# Altium footprint library Gate Driver Board.PcbLib: 20 footprints (part 1 of 2)
Each footprint in its own frame and in the unit in brackets; x right, y up, seen from the top. Pads: shape width x height; smd on the part's side, far side on the other; paste and mask are expansions set on the pad; w line width, h text height; cw(c..) or ccw(c..) is an arc to the next point about the centre after c.
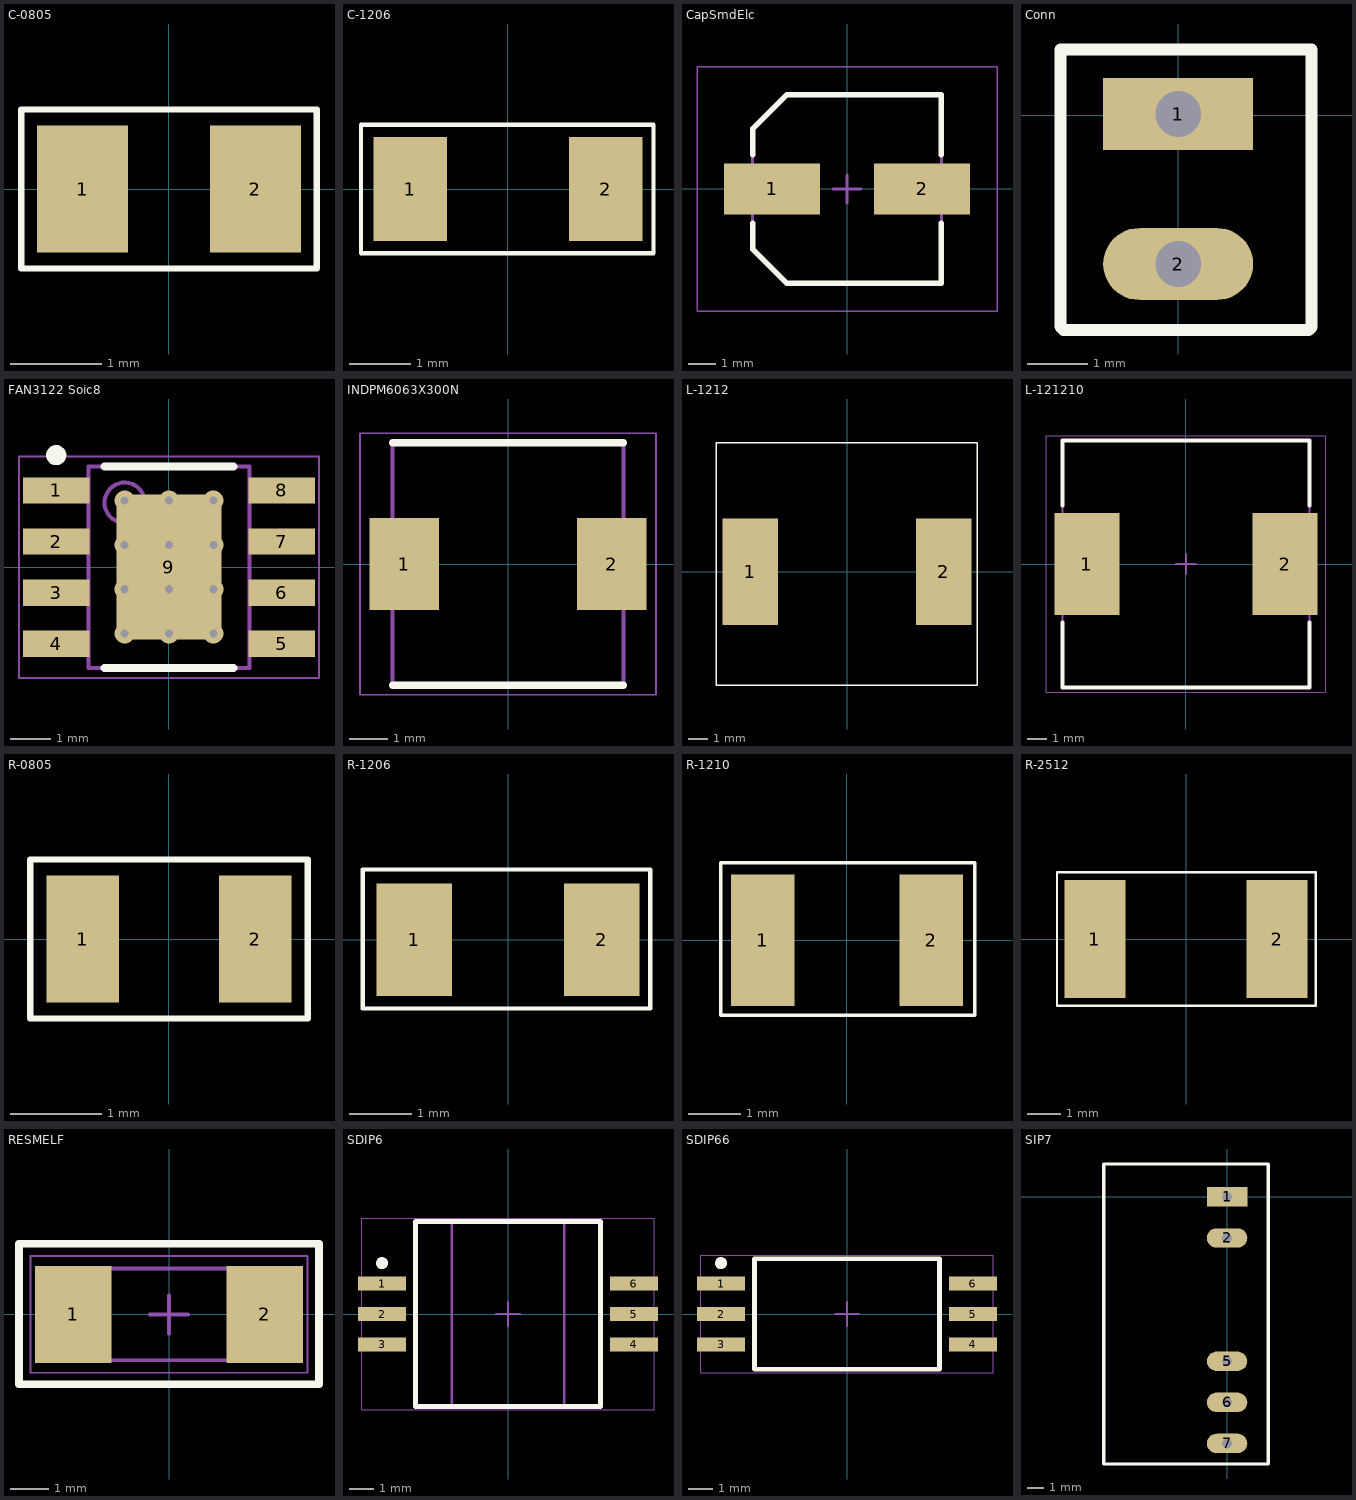
[diagram p0: the footprints below, top view; thin cyan lines are the x and y axes]

## C-0805 [mm]
pads (2):
  rect 1x1.4 smd: 1(-0.95,0) 2(0.95,0)
Top Overlay:
  lines w0.07: -1.625,-0.875 -0.391,-0.875 0.416,-0.875 1.625,-0.875 1.625,0.875 -1.625,0.875 -1.625,0.413 -1.625,-0.875
3D body "User Library-CAPC2013X10.STEP": height 1.01, standoff 0.01, extent -1,-0.625 1,0.625

## C-1206 [mm]
pads (2):
  rect 1.2x1.7 smd: 1(-1.6,0) 2(1.6,0)
Top Overlay:
  lines w0.07: -2.4,-1.05 2.375,-1.05 2.375,-0.531 2.375,0.556 2.375,0.692 2.375,1.05 -2.4,1.05 -2.4,-1.05
3D body "User Library-CAPC3216X10.STEP": height 1, standoff 0, extent -1.6,-0.8 1.6,0.8

## CapSmdElc [mm] "Aluminum Electrolytic Capacitor, Body 6.70x6.70x6.30mm, IPC Low Density"
height 6.3
pads (2):
  rect 3.45x1.85 smd: 1(-2.7,0) 2(2.7,0)
Top Overlay:
  lines w0.2: -3.4,-1.225 -3.4,-2.163 -2.163,-3.4 3.4,-3.4 3.4,-1.225 ; -3.4,1.225 -3.4,2.163 -2.163,3.4 3.4,3.4 3.4,1.225
Assembly Top:
  lines w0.1: -3.4,-2.163 -2.163,-3.4 3.4,-3.4 3.4,3.4 -2.163,3.4 -3.4,2.163 -3.4,-2.163
Courtyard Top:
  lines w0.05: -5.4,-4.4 -5.4,4.4 5.4,4.4 5.4,-4.4 -5.4,-4.4
  lines w0.1: -0.5,0 0.5,0 ; 0,-0.5 0,0.5
3D body "User Library-Nichicon_CW6_3x7.STEP": height 6.92, standoff 0.01, extent -3.45,-3.275 3.55,3.325

## Conn [mm]
pads (2):
  rect 2.5x1.2 hole 0.762 square: 1(0,0.025)
  oval 2.5x1.2 hole 0.762 square: 2(0,-2.475)
Top Overlay:
  lines w0.2: -1.965,-3.52 -1.91,-3.575 2.175,-3.575 2.225,-3.525 2.225,1.1 -1.965,1.1 -1.965,-3.52
3D body: height 1.4, standoff -1.4, extent -5,-0.775 -5,-0.775
3D body "User Library-Header1x2.STEP": height 8.15, standoff -2.83, extent -1.24,-3.74 1.3,1.34

## FAN3122 Soic8 [mm] "SOIC, 8-Leads, Body 4.95x3.95mm, Pitch 1.27mm, Thermal Pad 4.10x3.10mm, IPC Medium Density"
height 1.75
pads (9):
  rect 1.65x0.65 smd: 1(-2.8,1.905) 2(-2.8,0.635) 3(-2.8,-0.635) 4(-2.8,-1.905) 5(2.8,-1.905) 6(2.8,-0.635) 7(2.8,0.635) 8(2.8,1.905)
  rect 2.6x3.6 smd: 9(0,0)
via -1.1,1.65 diameter 0.5 hole 0.2
via 0,1.65 diameter 0.5 hole 0.2
via 1.1,1.65 diameter 0.5 hole 0.2
via -1.1,0.55 diameter 0.5 hole 0.2
via 0,0.55 diameter 0.5 hole 0.2
via 1.1,0.55 diameter 0.5 hole 0.2
via -1.1,-0.55 diameter 0.5 hole 0.2
via 0,-0.55 diameter 0.5 hole 0.2
via 1.1,-0.55 diameter 0.5 hole 0.2
via -1.1,-1.65 diameter 0.5 hole 0.2
via 0,-1.65 diameter 0.5 hole 0.2
via 1.1,-1.65 diameter 0.5 hole 0.2
Top Overlay:
  circle w0.25: c-2.8,2.78 r0.125
  lines w0.2: -1.6,-2.5 1.6,-2.5 ; -1.6,2.5 1.6,2.5
Assembly Top:
  circle w0.1: c-1.1,1.6 r0.5
  lines w0.1: -2,-2.5 -2,2.5 2,2.5 2,-2.5 -2,-2.5
Courtyard Top:
  lines w0.05: -3.725,-2.75 -3.725,2.75 3.725,2.75 3.725,-2.75 -3.725,-2.75
  lines w0.1: -0.5,0 0.5,0 ; 0,-0.5 0,0.5
3D body "User Library-SOIC8_JEDEC_MS-012AA.STEP": height 1.66, standoff -0.09, extent -3.124,-2.55 3.075,2.45

## INDPM6063X300N [mm]
pads (2):
  rect 1.8x2.4 smd: 1(-2.7,0) 2(2.7,0)
Top Overlay:
  lines w0.2: -3,-3.15 3,-3.15 ; -3,3.15 3,3.15
Mechanical 13:
  lines w0.1: -3,-3.15 3,-3.15 3,3.15 -3,3.15 -3,-3.15
Mechanical 15:
  lines w0.05: -3.85,-3.4 3.85,-3.4 3.85,3.4 -3.85,3.4 -3.85,-3.4
3D body "B82462G4333M000.stp": height 3, standoff 0, extent -3,-3.15 3,3.15

## L-1212 [mm]
pads (2):
  rect 2.8x5.4 smd: 1(-4.9,0) 2(4.9,0)
Top Overlay:
  lines w0.07: -6.625,-5.75 -6.625,6.525 6.6,6.525 6.6,-5.75 -6.625,-5.75

## L-121210 [mm] "Precision Wire Wound Inductor, 2-Leads, Body 12.25x12.25mm, IPC Medium Density"
height 10
pads (2):
  rect 3.3x5.15 smd: 1(-5.025,0) 2(5.025,0)
Top Overlay:
  lines w0.2: -6.25,-2.975 -6.25,-6.25 6.25,-6.25 6.25,-2.975 ; -6.25,2.975 -6.25,6.25 6.25,6.25 6.25,2.975
Assembly Top:
  lines w0.1: -6.25,-6.25 6.25,-6.25 6.25,6.25 -6.25,6.25 -6.25,-6.25
Courtyard Top:
  lines w0.05: -7.075,-6.5 7.075,-6.5 7.075,6.5 -7.075,6.5 -7.075,-6.5
  lines w0.1: -0.5,0 0.5,0 ; 0,-0.5 0,0.5
3D body: height 10, standoff 0, extent -6.25,-6.25 6.25,6.25

## R-0805 [mm]
pads (2):
  rect 0.8x1.4 smd: 1(-0.95,0) 2(0.95,0)
Top Overlay:
  lines w0.07: -1.525,-0.875 1.525,-0.875 1.525,0.875 -1.525,0.875 -1.525,-0.875
3D body "User Library-CR2012-0805.STEP": height 0.56, standoff -0.04, extent -1,-0.625 1,0.625

## R-1206 [mm]
pads (2):
  rect 1.2x1.8 smd: 1(-1.5,0) 2(1.5,0)
Top Overlay:
  lines w0.07: -0.275,-1.1 2.275,-1.1 ; -0.275,-1.1 -2.325,-1.1 -2.325,0.625 -2.325,1.125 -1.175,1.125 1.125,1.125 2.275,1.125 2.275,-1.1 ; -0.275,-1.1 2.275,-1.1
3D body "User Library-CR3216-1206.step": height 0.56, standoff -0.04, extent -1.6,-0.775 1.6,0.825

## R-1210 [mm]
pads (2):
  rect 1.2x2.5 smd: 1(-1.6,0) 2(1.6,0)
Top Overlay:
  lines w0.07: -2.4,-1.425 -2.4,0.9 -2.4,1.475 2.425,1.475 2.425,-1.425 -0.038,-1.425 -1.512,-1.425 -2.4,-1.425

## R-2512 [mm]
pads (2):
  rect 1.8x3.5 smd: 1(-2.7,0) 2(2.7,0)
Top Overlay:
  lines w0.07: -3.825,-1.975 -3.825,0.525 -3.825,1.975 3.85,1.975 3.85,-1.975 -3.825,-1.975
3D body "User Library-R SMD 2512.STEP": height 0.59, standoff -0.01, extent -3.206,-1.575 3.094,1.575

## RESMELF [mm] "MELF Resistor, 2-Leads, Body 5.85x2.30mm, IPC Medium Density"
height 2.4
pads (2):
  rect 2x2.55 smd: 1(-2.5,0) 2(2.5,0)
Top Overlay:
  lines w0.2: -3.925,-1.825 -3.925,1.85 -1.572,1.85 -0.191,1.85 2.082,1.85 ; -3.9,-1.825 -1.2,-1.825 3.925,-1.825 3.925,1.85 ; 2.082,1.85 3.925,1.85 ; 2.082,1.85 3.925,1.85
Assembly Top:
  lines w0.1: -2.95,-1.2 -2.95,1.2 2.95,1.2 2.95,-1.2 -2.95,-1.2
Courtyard Top:
  lines w0.05: -3.625,-1.525 -3.625,1.525 3.625,1.525 3.625,-1.525 -3.625,-1.525
  lines w0.1: -0.5,0 0.5,0 ; 0,-0.5 0,0.5
3D body: height 2.39, standoff 0, extent -2.95,-1.2 -2.4,1.195
3D body: height 2.39, standoff 0, extent 2.4,-1.2 2.95,1.195
3D body "User Library-MMB0207_102K.STEP": height 2.4, standoff 0, extent -2.9,-1.2 2.9,1.2

## SDIP6 [mm]
height 2.65
pads (6):
  rect 2x0.6 smd: 1(-5.25,1.27) 2(-5.25,0) 3(-5.25,-1.27) 4(5.25,-1.27) 5(5.25,0) 6(5.25,1.27)
Top Overlay:
  circle w0.25: c-5.25,2.12 r0.125
  lines w0.2: -3.85,-3.85 -3.85,3.85 3.85,3.85 3.85,-3.85 -3.85,-3.85
Assembly Top:
  lines w0.1: -2.35,-3.85 2.35,-3.85 2.35,3.85 -2.35,3.85 -2.35,-3.85
Courtyard Top:
  lines w0.05: -6.1,-4 6.1,-4 6.1,4 -6.1,4 -6.1,-4
  lines w0.1: -0.5,0 0.5,0 ; 0,-0.5 0,0.5
3D body: height 2.65, standoff 0, extent -2.35,-3.85 2.35,3.85

## SDIP66 [mm]
height 2.65
pads (6):
  rect 2x0.6 smd: 1(-5.25,1.27) 2(-5.25,0) 3(-5.25,-1.27) 4(5.25,-1.27) 5(5.25,0) 6(5.25,1.27)
Top Overlay:
  circle w0.25: c-5.25,2.12 r0.125
  lines w0.2: -3.85,-2.3 3.85,-2.3 3.85,2.3 -3.85,2.3 -3.85,-2.3
Assembly Top:
  lines w0.1: -3.85,-2.3 -3.85,2.3 3.85,2.3 3.85,-2.3 -3.85,-2.3
Courtyard Top:
  lines w0.05: -6.1,-2.45 -6.1,2.45 6.1,2.45 6.1,-2.45 -6.1,-2.45
  lines w0.1: -0.5,0 0.5,0 ; 0,-0.5 0,0.5
3D body: height 2.65, standoff 0, extent -3.85,-2.3 3.85,2.3

## SIP7 [mm]
pads (5):
  rect 2.5x1.2 hole 0.6: 1(0,0)
  oval 2.5x1.2 hole 0.6: 2(0,-2.54) 5(0,-10.16) 6(0,-12.7) 7(0,-15.24)
Top Overlay:
  lines w0.2: -7.616,-16.51 -7.616,2.032 2.54,2.032 2.54,-16.51 -7.616,-16.51
3D body "mps_dcdc_mgj2d_sc_a.step": height 11.66, standoff -4.94, extent -7.239,-17.243 2.581,2.257